# Altium footprint library WE-GDT.PcbLib: 3 footprints
Each footprint in its own frame and in the unit in brackets; x right, y up, seen from the top. Pads: shape width x height; smd on the part's side, far side on the other; paste and mask are expansions set on the pad; w line width, h text height; cw(c..) or ccw(c..) is an arc to the next point about the centre after c.
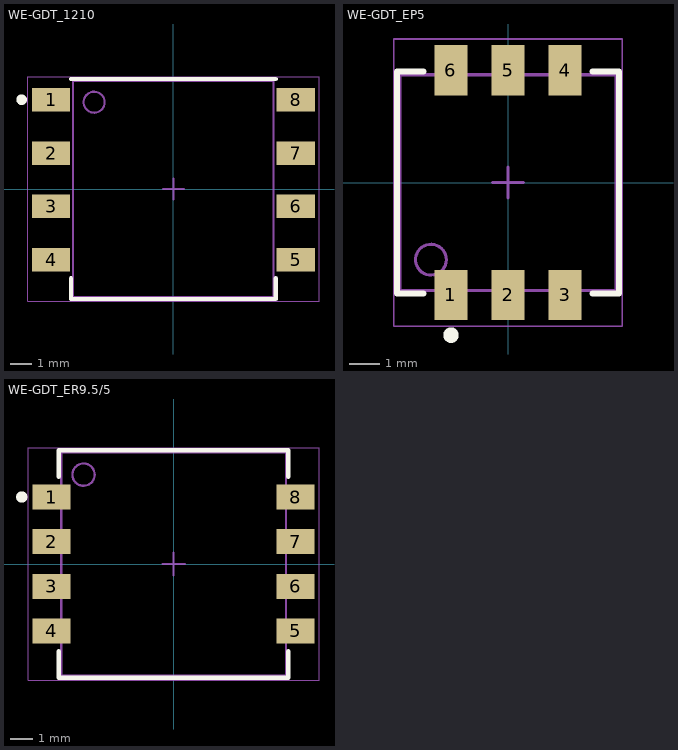
[diagram p0: the footprints below, top view; thin cyan lines are the x and y axes]

## WE-GDT_1210 [mm] "Gate-Drive-Transformer, size 1210"
height 5.64
pads (8):
  rect 1.82x1.12 smd: 1(-5.82,4.25) 2(-5.82,1.71) 3(-5.82,-0.83) 4(-5.82,-3.37) 5(5.82,-3.37) 6(5.82,-0.83) 7(5.82,1.71) 8(5.82,4.25)
Top Overlay:
  circle w0.25: c-7.22,4.25 r0.125
  lines w0.2: -4.87,-4.25 -4.87,-5.23 4.87,-5.23 4.87,-4.25 ; -4.87,5.23 4.87,5.23
Top Assembly:
  circle w0.1: c-3.77,4.13 r0.5
  lines w0.1: -4.77,-5.13 -4.77,5.13 4.77,5.13 4.77,-5.13 -4.77,-5.13
Top Designator:
  text ".Designator" at -3.647,-0.357 h1
Top 3D Body:
  lines w0.1: -4.77,-5.13 -4.77,5.13 4.77,5.13 4.77,-5.13 -4.77,-5.13
Top Courtyard:
  lines w0.05: -6.93,-5.33 -6.93,5.33 6.93,5.33 6.93,-5.33 -6.93,-5.33
Top Component Center:
  lines w0.1: -0.5,0 0.5,0 ; 0,-0.5 0,0.5
3D body "Download_STP_250-1252_rev1.STEP": height 5.41, standoff 0.01, extent -6.23,-5.03 6.23,5.03

## WE-GDT_EP5 [mm] "Gate-Drive-Transformer, size EP5"
height 6
pads (6):
  rect 1.07x1.63 smd: 1(-1.85,-3.645) 2(0,-3.645) 3(1.85,-3.645) 4(1.85,3.645) 5(0,3.645) 6(-1.85,3.645)
Top Overlay:
  circle w0.25: c-1.85,-4.95 r0.125
  lines w0.2: -2.75,-3.6 -3.6,-3.6 -3.6,3.6 -2.75,3.6 ; 2.75,-3.6 3.6,-3.6 3.6,3.6 2.75,3.6
Top Assembly:
  circle w0.1: c-2.5,-2.5 r0.5
  lines w0.1: -3.5,-3.5 -3.5,3.5 3.5,3.5 3.5,-3.5 -3.5,-3.5
Top Designator:
  text ".Designator" at -3.647,-0.357 h1
Top 3D Body:
  lines w0.1: -3.5,-3.5 -3.5,3.5 3.5,3.5 3.5,-3.5 -3.5,-3.5
Top Courtyard:
  lines w0.05: -3.7,-4.66 -3.7,4.66 3.7,4.66 3.7,-4.66 -3.7,-4.66
Top Component Center:
  lines w0.1: -0.5,0 0.5,0 ; 0,-0.5 0,0.5
3D body "STEP-WE-GDT-EP5-rev1.stp": height 5.1, standoff 0, extent -3.075,-3.85 3.075,3.85

## WE-GDT_ER9.5/5 [mm] "Gate-Drive-Transformer, size ER9.5/5"
height 5.97
pads (8):
  rect 1.7x1.12 smd: 1(-5.46,3) 2(-5.46,1) 3(-5.46,-1) 4(-5.46,-3) 5(5.46,-3) 6(5.46,-1) 7(5.46,1) 8(5.46,3)
Top Overlay:
  circle w0.25: c-6.8,3 r0.125
  lines w0.2: -5.135,-3.9 -5.135,-5.1 5.135,-5.1 5.135,-3.9 ; -5.135,3.9 -5.135,5.1 5.135,5.1 5.135,3.9
Top Assembly:
  circle w0.1: c-4.035,4 r0.5
  lines w0.1: -5.035,-5 5.035,-5 5.035,5 -5.035,5 -5.035,-5
Top Designator:
  text ".Designator" at -3.647,-0.357 h1
Top 3D Body:
  lines w0.1: -5.035,-5 5.035,-5 5.035,5 -5.035,5 -5.035,-5
Top Courtyard:
  lines w0.05: -6.51,-5.2 -6.51,5.2 6.51,5.2 6.51,-5.2 -6.51,-5.2
Top Component Center:
  lines w0.1: -0.5,0 0.5,0 ; 0,-0.5 0,0.5
3D body "ER9.5-2008-2027.STEP": height 5.38, standoff 0, extent -5.78,-4.78 5.78,4.77